# Altium schematic symbol library Schottky_diode.SchLib: 1 symbol
Pins are listed as number, name and electrical type; pins without a type are passive.

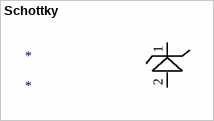
[diagram p0: symbol Schottky]

## Schottky
designator *
footprint sss (MELF Diode, 2-Leads, Body 5.30x3.62mm, IPC Medium Density)
pins: 1, 2